# EAGLE library part MCP6044 (library jesse)
The MCP6041/2/3/4 family of operational amplifiers (op amps) from Microchip Technology Inc. operate with a single supply voltage as low as 1.4V, while drawing less than 1 ?A (maximum) of quiescent current per amplifier. These devices are also designed to support rail-to-rail input and output operation. This combination of features supports battery-powered and portable applications.
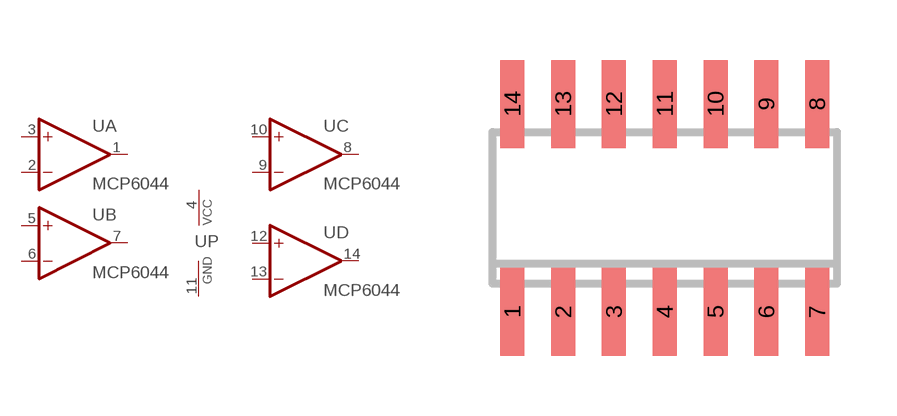
[diagram p0: symbol with the pads of SO14A; footprint SO14A]

Designator prefix U; gates A=OPAMP B=OPAMP C=OPAMP D=OPAMP P=PWRN

## MCP6044  [SO14A]
1  A:OUT  oc
2  A:-IN  in
3  A:+IN  in
4  P:VCC  pwr
5  B:+IN  in
6  B:-IN  in
7  B:OUT  oc
8  C:OUT  oc
9  C:-IN  in
10  C:+IN  in
11  P:GND  pwr
12  D:+IN  in
13  D:-IN  in
14  D:OUT  oc

## Footprint SO14A (pad centres in mm)
smd 0.6 x 2.2: 1 -3.81,-2.6; 2 -2.54,-2.6; 3 -1.27,-2.6; 4 0,-2.6; 5 1.27,-2.6; 6 2.54,-2.6; 7 3.81,-2.6; 8 3.81,2.6; 9 2.54,2.6; 10 1.27,2.6; 11 0,2.6; 12 -1.27,2.6; 13 -2.54,2.6; 14 -3.81,2.6